# Altium footprint library adafruit.PCBLIB: 643 footprints (part 34 of 41)
Each footprint in its own frame and in the unit in brackets; x right, y up, seen from the top. Pads: shape width x height; smd on the part's side, far side on the other; paste and mask are expansions set on the pad; w line width, h text height; cw(c..) or ccw(c..) is an arc to the next point about the centre after c.
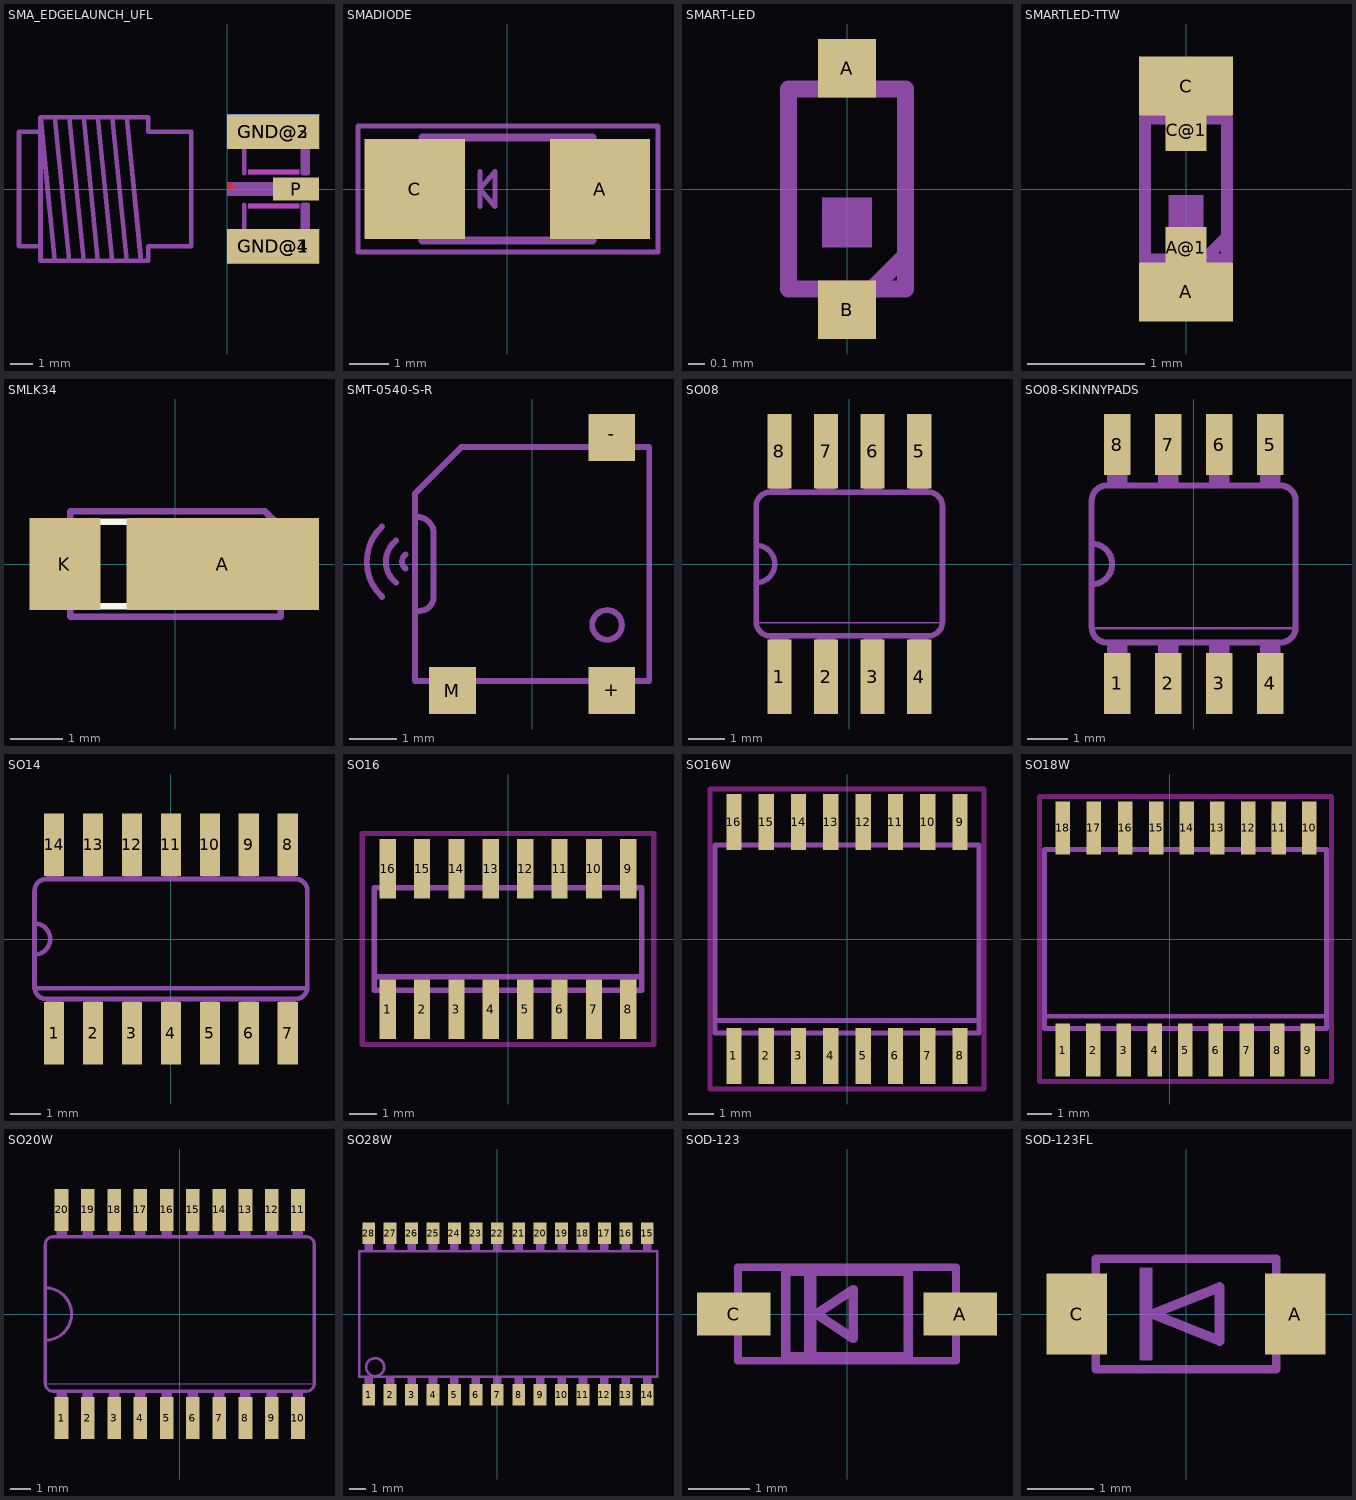
[diagram p33: the footprints below, top view; thin cyan lines are the x and y axes]

## SMA_EDGELAUNCH_UFL [mil]
pads (5):
  rect 160x60 smd paste-80: GND@1(80,-100) GND@2(80,100)
  rect 160x60 smd far side paste-80: GND@3(80,100) GND@4(80,-100)
  rect 80x40 smd paste-40: P(120,0)
Top Layer:
  region: 0,0 10,0 10,10 0,10
  region: 0,0 10,0 10,10 0,10
Top Paste:
  rectangle: 126,-19 156,19
  rectangle: 39,38.94 123,70.94
  region: 123,-38.94 39,-38.94 39,-70.94 123,-70.94
Top Solder:
  rectangle: 35,36.94 127,72.94
  region: 127,-36.94 35,-36.94 35,-72.94 127,-72.94
Mechanical 10 keep-out:
  rectangle: 36,-34 126,-25
  rectangle: 36,25 126,34
Mechanical 18:
  rectangle: 0,-12.5 125,12.5
  region: 0,0 10,0 10,10 0,10
  region: 0,0 10,0 10,10 0,10
  lines w8: -150,-125 -175,125 ; 29.82,-27.56 29.82,-82.68 132.18,-82.68 ; 29.82,27.56 29.82,82.68 132.18,82.68 ; 136.12,-78.74 136.12,-27.56 ; 136.12,27.56 136.12,78.74 ; -325,-100 -325,-125 -300,-125 ; -325,-100 -362.5,-100 -362.5,100 -325,100 ; -325,-100 -325,100 ; -325,100 -325,125 ; -325,125 -300,125 ; -325,125 -300,-125 ; -300,-125 -275,-125 ; -300,125 -275,125 ; -300,125 -275,-125 ; -275,-125 -250,-125 ; -275,125 -250,125 ; -275,125 -250,-125 ; -250,-125 -225,-125 ; -250,125 -225,125 ; -250,125 -225,-125 ; -225,-125 -200,-125 ; -225,125 -200,125 ; -225,125 -200,-125 ; -200,-125 -175,-125 ; -200,125 -175,125 ; -200,125 -175,-125 ; -175,-125 -137.5,-125 -137.5,-100 -62.5,-100 -62.5,100 -137.5,100 -137.5,125 -175,125 ; 132.18,-82.68 132.18,-27.56 140.06,-27.56 140.06,-82.68 132.18,-82.68 ; 132.18,82.68 132.18,27.56 140.06,27.56 140.06,82.68 132.18,82.68

## SMADIODE [mil]
pads (2):
  rect 100x100 smd: A(92.5,0) C(-92.5,0)
Mechanical 2:
  lines w5: -149.17,-54.88 -149.17,-45.12 ; -27.5,-17.5 -27.5,17.5 ; 150.24,52.62 150.24,54.88 ; -149.17,-45.12 -149.17,62.99 150.24,62.99 150.24,54.88 ; -149.17,-45.12 -149.17,-62.99 150.24,-62.99 150.24,54.88 ; -27.5,0 -12.5,17.5 -12.5,-17.5 -27.5,0
Mechanical 18:
  rectangle: -111.22,-43.31 -85.63,43.31
  region: 111.22,43.31 85.63,43.31 85.63,-43.31 111.22,-43.31
  rectangle: -68.9,-48.23 -42.32,48.23
  lines w8: -84.65,-51.18 84.65,-51.18 84.65,51.18 -84.65,51.18 -84.65,-51.18

## SMART-LED [mm]
pads (2):
  rect 0.35x0.35 smd: A(0,0.725) B(0,-0.725)
Mechanical 2:
  rectangle: -0.15,-0.35 0.15,-0.05
  lines w0.102: -0.35,-0.6 -0.35,0.6 ; 0.35,-0.6 0.35,0.6
Mechanical 18:
  rectangle: -0.15,0.6 0.15,0.85
  rectangle: -0.15,-0.85 0.15,-0.6
  lines w0.102: -0.35,-0.6 0.35,-0.6 ; -0.35,0.6 0.35,0.6 ; 0.15,-0.6 0.35,-0.4

## SMARTLED-TTW [mm]
pads (4):
  rect 0.8x0.5 smd paste-0.4 mask-0.4: A(0,-0.875) C(0,0.875)
  rect 0.35x0.35 smd paste-0.175 mask-0.175: A@1(0,-0.5) C@1(0,0.5)
Top Paste:
  rectangle: -0.225,0.3 0.225,0.975
  region: 0.225,-0.3 -0.225,-0.3 -0.225,-0.975 0.225,-0.975
Top Solder:
  rectangle: -0.175,0.325 0.175,0.7
  region: 0.175,-0.325 -0.175,-0.325 -0.175,-0.7 0.175,-0.7
Mechanical 2:
  rectangle: -0.15,-0.35 0.15,-0.05
  lines w0.102: -0.35,-0.6 -0.35,0.6 ; 0.35,-0.6 0.35,0.6
Mechanical 18:
  rectangle: -0.15,0.6 0.15,0.85
  rectangle: -0.15,-0.85 0.15,-0.6
  lines w0.102: -0.35,-0.6 0.35,-0.6 ; -0.35,0.6 0.35,0.6 ; 0.15,-0.6 0.35,-0.4

## SMLK34 [mil]
pads (2):
  rect 143.7x68.5 smd: A(35.43,0)
  rect 53.15x68.5 smd: K(-82.68,0)
Top Overlay:
  lines w5: -70.87,-31.5 -70.87,31.5 62.99,31.5 70.87,23.62 70.87,-31.5 -70.87,-31.5
Mechanical 2:
  lines w5: -78.74,-39.37 78.74,-39.37 78.74,27.56 66.93,39.37 -78.74,39.37 -78.74,-39.37

## SMT-0540-S-R [mm]
pads (3):
  rect 1x1 smd: +(1.7,-2.7) -(1.7,2.7) M(-1.7,-2.7)
Mechanical 2:
  circle w0.127: c1.6,-1.3 r0.316
  lines w0.127: -3.2,-0.7 cw(c-2.5,0.05) -3.2,0.8 ; -2.9,-0.4 cw(c-2.55,0.05) -2.9,0.5 ; -2.7,-0.1 cw(c-2.588,0.05) -2.7,0.2 ; -2.4,-1 ccw(c-2.4,-0.7) -2.1,-0.7 -2.1,0.7 ccw(c-2.45,0.65) -2.5,1 ; -2.5,1 -2.5,-2.5 2.5,-2.5 2.5,2.5 -1.5,2.5 -2.5,1.5 -2.5,1

## SO08 [mil]
pads (8):
  rect 26x80 smd: 1(-75,-121) 2(-25,-121) 3(25,-121) 4(75,-121) 5(75,121) 6(25,121) 7(-25,121) 8(-75,121)
Mechanical 2:
  lines w2: -100,-63 100,-63
  lines w6: -100,-20 ccw(c-100,0) -100,20 ; -100,-62 ccw(c-85,-62) -85,-77 85,-77 ccw(c85,-62) 100,-62 100,62 ccw(c85,62) 85,77 -85,77 ccw(c-85,62) -100,62 -100,-62
Mechanical 18:
  rectangle: 65,77 85,122
  rectangle: -85,-122 -65,-77
  rectangle: -35,-122 -15,-77
  rectangle: 15,-121 35,-76
  rectangle: 65,-122 85,-77
  rectangle: 15,77 35,122
  rectangle: -35,77 -15,122
  rectangle: -85,77 -65,122

## SO08-SKINNYPADS [mil]
pads (8):
  rect 26x60 smd: 1(-75,-117.06) 2(-25,-117.06) 3(25,-117.06) 4(75,-117.06) 5(75,117.06) 6(25,117.06) 7(-25,117.06) 8(-75,117.06)
Mechanical 2:
  lines w2: -100,-63 100,-63
  lines w6: -100,-20 ccw(c-100,0) -100,20 ; -100,-62 ccw(c-85,-62) -85,-77 85,-77 ccw(c85,-62) 100,-62 100,62 ccw(c85,62) 85,77 -85,77 ccw(c-85,62) -100,62 -100,-62
Mechanical 18:
  rectangle: 65,77 85,122
  rectangle: -85,-122 -65,-77
  rectangle: -35,-122 -15,-77
  rectangle: 15,-121 35,-76
  rectangle: 65,-122 85,-77
  rectangle: 15,77 35,122
  rectangle: -35,77 -15,122
  rectangle: -85,77 -65,122

## SO14 [mil]
pads (14):
  rect 26x80 smd: 1(-150,-121) 2(-100,-121) 3(-50,-121) 4(0,-121) 5(50,-121) 6(100,-121) 7(150,-121) 8(150,121) 9(100,121) 10(50,121) 11(0,121) 12(-50,121) 13(-100,121) 14(-150,121)
Mechanical 2:
  lines w6: -175,-63 175,-63 ; -175,-20 -175,20 ; -175,-20 -175,-62 ccw(c-160,-62) -160,-77 160,-77 ccw(c160,-62) 175,-62 175,62 ccw(c160,62) 160,77 -160,77 ccw(c-160,62) -175,62 -175,20 ; -175,-20 ccw(c-175,0) -175,20
Mechanical 18:
  rectangle: -10,77 10,122
  rectangle: -160,-122 -140,-77
  rectangle: -110,-122 -90,-77
  rectangle: -60,-121 -40,-76
  rectangle: -10,-122 10,-77
  rectangle: -60,77 -40,122
  rectangle: -110,77 -90,122
  rectangle: -160,77 -140,122
  rectangle: 40,77 60,122
  rectangle: 90,77 110,122
  rectangle: 140,77 160,122
  rectangle: 40,-122 60,-77
  rectangle: 90,-122 110,-77
  rectangle: 140,-122 160,-77

## SO16 [mil]
pads (16):
  rect 23.62x86.61 smd: 1(-175,-102.36) 2(-125,-102.36) 3(-75,-102.36) 4(-25,-102.36) 5(25,-102.36) 6(75,-102.36) 7(125,-102.36) 8(175,-102.36) 9(175,102.36) 10(125,102.36) 11(75,102.36) 12(25,102.36) 13(-25,102.36) 14(-75,102.36) 15(-125,102.36) 16(-175,102.36)
Keep-Out Layer:
  lines w7.87: -212.4,-153.54 212.4,-153.54 212.4,153.54 -212.4,153.54 -212.4,-153.54
Mechanical 18:
  rectangle: -184.65,-122.05 -165.35,-78.74
  rectangle: -134.65,-122.05 -115.35,-78.74
  rectangle: -84.65,-122.05 -65.35,-78.74
  rectangle: -34.65,-122.05 -15.35,-78.74
  rectangle: 65.35,78.74 84.65,122.05
  rectangle: 15.35,78.74 34.65,122.05
  rectangle: -34.65,78.74 -15.35,122.05
  rectangle: -84.65,78.74 -65.35,122.05
  rectangle: 15.35,-122.05 34.65,-78.74
  rectangle: 65.35,-122.05 84.65,-78.74
  rectangle: 115.35,-122.05 134.65,-78.74
  rectangle: 165.35,-122.05 184.65,-78.74
  rectangle: 165.35,78.74 184.65,122.05
  rectangle: 115.35,78.74 134.65,122.05
  rectangle: -134.65,78.74 -115.35,122.05
  rectangle: -184.65,78.74 -165.35,122.05
  lines w8: -194.49,-55.12 -194.49,-74.8 194.49,-74.8 194.49,-55.12 ; -194.49,-55.12 -194.49,74.8 194.49,74.8 194.49,-55.12 ; -194.49,-55.12 194.49,-55.12

## SO16W [mil]
pads (16):
  rect 23.62x86.61 smd: 1(-175,-181.1) 2(-125,-181.1) 3(-75,-181.1) 4(-25,-181.1) 5(25,-181.1) 6(75,-181.1) 7(125,-181.1) 8(175,-181.1) 9(175,181.1) 10(125,181.1) 11(75,181.1) 12(25,181.1) 13(-25,181.1) 14(-75,181.1) 15(-125,181.1) 16(-175,181.1)
Keep-Out Layer:
  lines w7.87: -212.4,-232.28 212.4,-232.28 212.4,232.28 -212.4,232.28 -212.4,-232.28
Mechanical 18:
  rectangle: -184.65,-209.45 -165.35,-149.61
  rectangle: -134.65,-209.45 -115.35,-149.61
  rectangle: -84.65,-209.45 -65.35,-149.61
  rectangle: -34.65,-209.45 -15.35,-149.61
  rectangle: 15.35,-209.45 34.65,-149.61
  rectangle: 65.35,-209.45 84.65,-149.61
  rectangle: 115.35,-209.45 134.65,-149.61
  rectangle: 165.35,-209.45 184.65,-149.61
  rectangle: 165.35,149.61 184.65,209.45
  rectangle: 115.35,149.61 134.65,209.45
  rectangle: 65.35,149.61 84.65,209.45
  rectangle: 15.35,149.61 34.65,209.45
  rectangle: -34.65,149.61 -15.35,209.45
  rectangle: -84.65,149.61 -65.35,209.45
  rectangle: -134.65,149.61 -115.35,209.45
  rectangle: -184.65,149.61 -165.35,209.45
  lines w8: -204.33,-125.98 -204.33,-145.67 204.33,-145.67 204.33,-125.98 ; -204.33,-125.98 -204.33,145.67 204.33,145.67 204.33,-125.98 ; -204.33,-125.98 204.33,-125.98

## SO18W [mil]
pads (18):
  rect 23.62x86.61 smd: 1(-175,-181.1) 2(-125,-181.1) 3(-75,-181.1) 4(-25,-181.1) 5(25,-181.1) 6(75,-181.1) 7(125,-181.1) 8(175,-181.1) 9(225,-181.1) 10(227.36,181.1) 11(177.36,181.1) 12(127.36,181.1) 13(77.36,181.1) 14(27.36,181.1) 15(-22.64,181.1) 16(-72.64,181.1) 17(-123.82,181.1) 18(-175,181.1)
Keep-Out Layer:
  lines w7.87: -212.4,-232.28 263.58,-232.28 263.58,232.28 -212.4,232.28 -212.4,-232.28
Mechanical 18:
  rectangle: -184.65,-209.45 -165.35,-149.61
  rectangle: -134.65,-209.45 -115.35,-149.61
  rectangle: -84.65,-209.45 -65.35,-149.61
  rectangle: -34.65,-209.45 -15.35,-149.61
  rectangle: 15.35,-209.45 34.65,-149.61
  rectangle: 65.35,-209.45 84.65,-149.61
  rectangle: 115.35,-209.45 134.65,-149.61
  rectangle: 165.35,-209.45 184.65,-149.61
  rectangle: 215.35,149.61 234.65,209.45
  rectangle: 165.35,149.61 184.65,209.45
  rectangle: 116.53,149.61 135.83,209.45
  rectangle: 66.53,149.61 85.83,209.45
  rectangle: 16.53,149.61 35.83,209.45
  rectangle: -33.47,149.61 -14.17,209.45
  rectangle: -83.47,149.61 -64.17,209.45
  rectangle: -133.47,149.61 -114.17,209.45
  rectangle: -184.65,149.61 -165.35,209.44
  rectangle: 215.35,-209.44 234.65,-149.61
  lines w8: -204.33,-125.98 -204.33,-145.67 255.51,-145.67 255.51,-125.98 ; -204.33,-125.98 -204.33,145.67 255.51,145.67 255.51,-125.98 ; -204.33,-125.98 255.51,-125.98

## SO20W [mil]
pads (20):
  rect 26x80 smd: 1(-225,-198) 2(-175,-198) 3(-125,-198) 4(-75,-198) 5(-25,-198) 6(25,-198) 7(75,-198) 8(125,-198) 9(175,-198) 10(225,-198) 11(225,198) 12(175,198) 13(125,198) 14(75,198) 15(25,198) 16(-25,198) 17(-75,198) 18(-125,198) 19(-175,198) 20(-225,198)
Mechanical 2:
  rectangle: -235,-152 -215,-147
  rectangle: -185,-152 -165,-147
  rectangle: -135,-152 -115,-147
  rectangle: -85,-152 -65,-147
  rectangle: -35,-152 -15,-147
  rectangle: 15,-152 35,-147
  rectangle: 65,-152 85,-147
  rectangle: 115,-152 135,-147
  rectangle: -235,147 -215,152
  rectangle: -185,147 -165,152
  rectangle: -135,147 -115,152
  rectangle: -85,147 -65,152
  rectangle: -35,147 -15,152
  rectangle: 15,147 35,152
  rectangle: 65,147 85,152
  rectangle: 115,147 135,152
  rectangle: 165,147 185,152
  rectangle: 215,147 235,152
  rectangle: 165,-152 185,-147
  rectangle: 215,-152 235,-147
  lines w2: -255,-133 255,-133
  lines w6: -256,-50 -256,50 ; -256,-50 -256,-132 ccw(c-241,-132) -241,-147 241,-147 ccw(c241,-132) 256,-132 256,132 ccw(c241,132) 241,147 -241,147 ccw(c-241,132) -256,132 -256,50 ; -256,-50 ccw(c-256,0) -256,50
Mechanical 18:
  rectangle: -235,-210 -215,-152
  rectangle: -185,-210 -165,-152
  rectangle: -135,-210 -115,-152
  rectangle: -85,-210 -65,-152
  rectangle: -35,-210 -15,-152
  rectangle: 15,-210 35,-152
  rectangle: 65,-210 85,-152
  rectangle: 115,-210 135,-152
  rectangle: -235,152 -215,210
  rectangle: -185,152 -165,210
  rectangle: -135,152 -115,210
  rectangle: -85,152 -65,210
  rectangle: -35,152 -15,210
  rectangle: 15,152 35,210
  rectangle: 65,152 85,210
  rectangle: 115,152 135,210
  rectangle: 165,152 185,210
  rectangle: 215,152 235,210
  rectangle: 165,-210 185,-152
  rectangle: 215,-210 235,-152

## SO28W [mil]
pads (28):
  rect 30x50 smd: 1(-300,-188.19) 2(-250,-188.19) 3(-200,-188.19) 4(-150,-188.19) 5(-100,-188.19) 6(-50,-188.19) 7(0,-188.19) 8(50,-188.19) 9(100,-188.19) 10(150,-188.19) 11(200,-188.19) 12(250,-188.19) 13(300,-188.19) 14(350,-188.19) 15(350,188.19) 16(300,188.19) 17(250,188.19) 18(200,188.19) 19(150,188.19) 20(100,188.19) 21(50,188.19) 22(0,188.19) 23(-50,188.19) 24(-100,188.19) 25(-150,188.19) 26(-200,188.19) 27(-250,188.19) 28(-300,188.19)
Mechanical 2:
  circle w6: c-285,-124 r21
  lines w6: -322,-146.19 373,-146.19 373,146.19 -322,146.19 -322,-146.19
Mechanical 18:
  rectangle: -310,-207.19 -290,-147.19
  rectangle: -260,-207.19 -240,-147.19
  rectangle: -210,-207.19 -190,-147.19
  rectangle: -160,-207.19 -140,-147.19
  rectangle: -110,-207.19 -90,-147.19
  rectangle: -60,-207.19 -40,-147.19
  rectangle: -10,-207.19 10,-147.19
  rectangle: 40,-207.19 60,-147.19
  rectangle: 90,-207.19 110,-147.19
  rectangle: 140,-207.19 160,-147.19
  rectangle: 190,-207.19 210,-147.19
  rectangle: 240,-207.19 260,-147.19
  rectangle: 290,-207.19 310,-147.19
  rectangle: 340,-207.19 360,-147.19
  rectangle: 340,147.19 360,207.19
  rectangle: 290,147.19 310,207.19
  rectangle: 240,147.19 260,207.19
  rectangle: 190,147.19 210,207.19
  rectangle: 140,147.19 160,207.19
  rectangle: 90,147.19 110,207.19
  rectangle: 40,147.19 60,207.19
  rectangle: -10,147.19 10,207.19
  rectangle: -60,147.19 -40,207.19
  rectangle: -110,147.19 -90,207.19
  rectangle: -160,147.19 -140,207.19
  rectangle: -210,147.19 -190,207.19
  rectangle: -260,147.19 -240,207.19
  rectangle: -310,147.19 -290,207.19

## SOD-123 [mil]
pads (2):
  rect 47.24x27.56 smd: A(72.83,0) C(-72.83,0)
Mechanical 2:
  lines w5: -70,-30 70,-30 70,30 -70,30 -70,-30
Mechanical 18:
  rectangle: -27.56,-27.56 -19.69,27.56
  lines w6: -39.37,-27.56 39.37,-27.56 39.37,27.56 -39.37,27.56 -39.37,-27.56 ; -19.69,0 3.94,15.75 3.94,-15.75 -19.69,0

## SOD-123FL [mil]
pads (2):
  rect 35.83x48.03 smd: A(64.47,0) C(-64.47,0)
Mechanical 2:
  rectangle: -27.56,-27.56 -19.69,27.56
  lines w5: -53.15,-32.48 53.15,-32.48 53.15,32.48 -53.15,32.48 -53.15,-32.48
  lines w6: -19.69,0 19.69,15.75 19.69,-15.75 -19.69,0